# Altium integrated library 6-103735-4.IntLib: 1 symbol
Pins are listed as number, name and electrical type; pins without a type are passive.

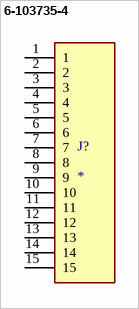
[diagram p0: symbol 6-103735-4]

## 6-103735-4
designator J?
MP: 6-103735-4; Package: None; Price: None; Value: *; Availability: Unavailable
footprint TE_6-103735-4
pins: 1, 2, 3, 4, 5, 6, 7, 8, 9, 10, 11, 12, 13, 14, 15